# Altium footprint library tcrt_conn.PcbLib: 1 footprints
Each footprint in its own frame and in the unit in brackets; x right, y up, seen from the top. Pads: shape width x height; smd on the part's side, far side on the other; paste and mask are expansions set on the pad; w line width, h text height; cw(c..) or ccw(c..) is an arc to the next point about the centre after c.
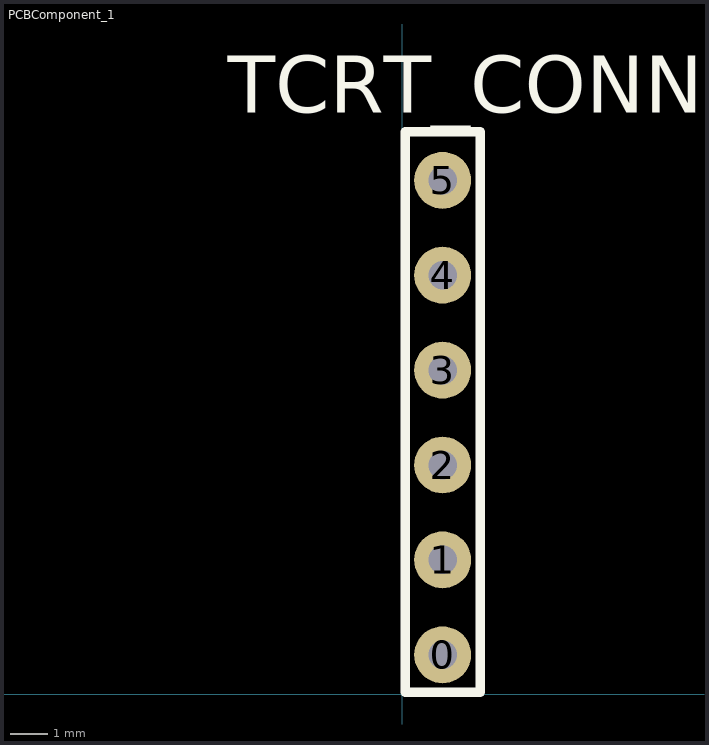
[diagram p0: the footprint, top view; thin cyan lines are the x and y axes]

## PCBComponent_1 [mil]
pads (6):
  round 60 hole 30: 0(42.48,41.34) 1(42.48,141.34) 2(42.48,241.34) 3(42.48,341.34) 4(42.48,441.34) 5(42.48,541.34)
Top Overlay:
  lines w10: 3.11,1.97 81.85,1.97 81.85,592.52 3.11,592.52 3.11,1.97
  text "TCRT_CONN" at -183.74,612.52 h60